# EAGLE library part 23A1024-I/SN (library 23A1024)
1Mbit SPI Serial SRAM,SOIC-8
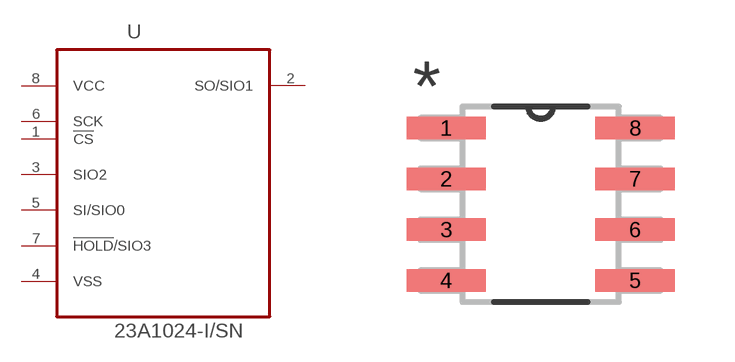
[diagram p0: symbol with the pads of SOIC127P600X175-8N; footprint SOIC127P600X175-8N]

Designator prefix U

## 23A1024-I/SN (MPN: 23A1024-I/SN; OC_FARNELL: 2212147; OC_NEWARK: 94T8191; PACKAGE: SOIC-8; SUPPLIER: MICROCHIP)  [SOIC127P600X175-8N]
1  !CS  in
2  SO/SIO1  out
3  SIO2  pas
4  VSS  pas
5  SI/SIO0  in
6  SCK  in
7  !HOLD!/SIO3  pas
8  VCC  pwr

## Footprint SOIC127P600X175-8N (pad centres in mm)
smd 1.981 x 0.559: 1 -2.362,1.905; 2 -2.362,0.635; 3 -2.362,-0.635; 4 -2.362,-1.905; 5 2.362,-1.905; 6 2.362,-0.635; 7 2.362,0.635; 8 2.362,1.905